# EAGLE library part SHT11 (library SHT11)
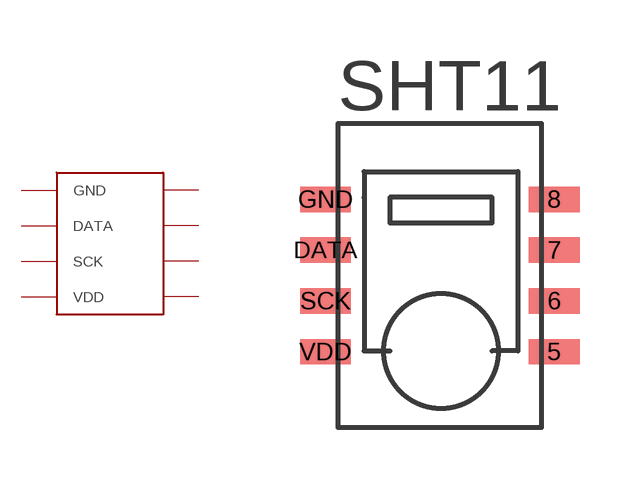
[diagram p0: symbol with the pads of SHT11; footprint SHT11]

Designator prefix SHT11

## SHT11  [SHT11]
5  5  nc
6  6  nc
7  7  nc
8  8  nc
DATA  DATA
GND  GND  pwr
SCK  SCK  in
VDD  VDD  pwr

## Footprint SHT11 (pad centres in mm)
smd 1.27 x 0.635: 5 7.31,2.54; 6 7.31,3.81; 7 7.31,5.08; 8 7.31,6.35; DATA 1.59,5.08; GND 1.59,6.35; SCK 1.59,3.81; VDD 1.59,2.54